# EAGLE library part 74S134D (library EW_IC_74_Logic)
12-input pos. nand w/3 state out & enable. Category: Gates Manufacturer: Generic
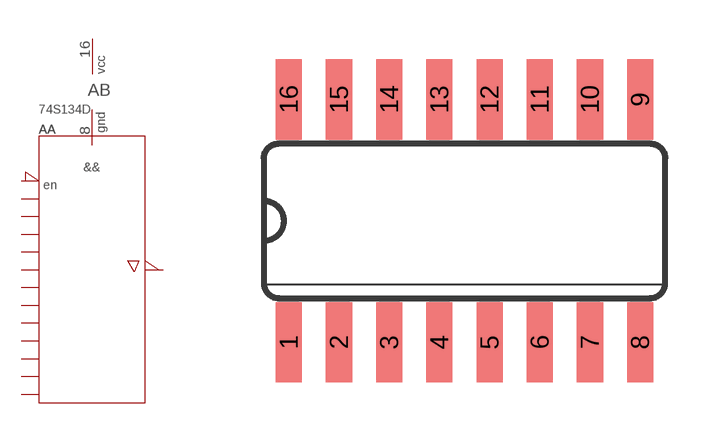
[diagram p49: symbol with the pads of SO16; footprint SO16]

Designator prefix A; gates A=74134_S_12-INPUT_NAND B=PWRN

## 74S134D  [SO16]
1  A:A  pwr
2  A:B  pwr
3  A:C  pwr
4  A:D  pwr
5  A:E  pwr
6  A:F  pwr
7  A:G  pwr
8  B:GND  pwr
9  A:Y  pwr
10  A:H  pwr
11  A:I  pwr
12  A:J  pwr
13  A:K  pwr
14  A:L  pwr
15  A:EN  pwr
16  B:VCC  pwr

## Footprint SO16 (pad centres in mm)
Small Outline package 150 mil
smd 0.66 x 2.032: 1 -4.445,-3.073; 2 -3.175,-3.073; 3 -1.905,-3.073; 4 -0.635,-3.073; 5 0.635,-3.073; 6 1.905,-3.073; 7 3.175,-3.073; 8 4.445,-3.073; 9 4.445,3.073; 10 3.175,3.073; 11 1.905,3.073; 12 0.635,3.073; 13 -0.635,3.073; 14 -1.905,3.073; 15 -3.175,3.073; 16 -4.445,3.073